# EAGLE library part MAX4896 (library relay-drivers)
Space-Saving, 8-Channel Relay/Load Driver he MAX4896 8-channel relay and load driver is designed for medium voltage applications up to 50V. This device is offered in a 20-pin, 5mm x 5mm TQFN package, resulting in substantial board space savings. The MAX4896 8-channel relay driver offers built-in induc- tive kickback protection, drive for latching/nonlatching or dual-coil relays, and open-load and short-circuit fault detection.The MAX4896 also protects against overcur- rent conditions. Each independent open-drain output fea- tures a 3Ω (typ) on-resistance, and is guaranteed to sink 200mA of load current (V S ≥ 4.5V). A built-in overvoltage protection clamp handles kickback- voltage transients, which are common when driving induc- tive loads. Thermal-shutdown circuitry shuts off all outputs (OUT_) when the junction temperature exceeds +160°C. The MAX4896 employs a reset input that allows the user to turn off all outputs simultaneously with a single control line. The MAX4896 includes a 10MHz SPITM-/QSPITM-/ MICROWIRETM-compatible serial interface. The serial inter- face is compatible with TTL-/CMOS-logic voltage levels and operates with a single +2.7V to +5.5V supply. In addition, the SPI output data can be used for diagnostics purposes including open-load and shortcircuit fault detection. The MAX4896 is offered in the extended (-40°C to +85°C) and automotive (-40°C to +125°C) operating temperature ranges.
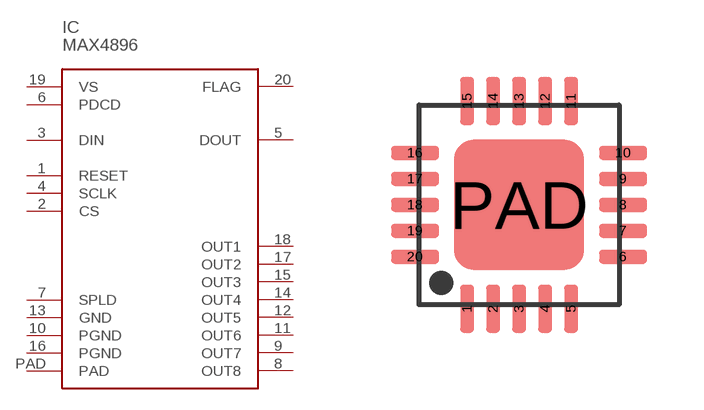
[diagram p0: symbol with the pads of TQFN-EP20; footprint TQFN-EP20]

Designator prefix IC

## MAX4896  [TQFN-EP20]
1  RESET
2  CS
3  DIN
4  SCLK
5  DOUT
6  PDCD
7  SPLD
8  OUT8
9  OUT7
10  PGND
11  OUT6
12  OUT5
13  GND
14  OUT4
15  OUT3
16  PGND
17  OUT2
18  OUT1
19  VS
20  FLAG
PAD  PAD

## Footprint TQFN-EP20 (pad centres in mm)
smd 0.35 x 1.2: 1 -1.3,-2.6; 2 -0.65,-2.6; 3 0,-2.6; 4 0.65,-2.6; 5 1.3,-2.6; 11 1.3,2.6; 12 0.65,2.6; 13 0,2.6; 14 -0.65,2.6; 15 -1.3,2.6
smd 1.2 x 0.35: 6 2.6,-1.3; 7 2.6,-0.65; 8 2.6,0; 9 2.6,0.65; 10 2.6,1.3; 16 -2.6,1.3; 17 -2.6,0.65; 18 -2.6,0; 19 -2.6,-0.65; 20 -2.6,-1.3
smd 3.25 x 3.25: PAD 0,0